# Altium footprint library 53048-0410.PcbLib: 1 footprints
Each footprint in its own frame and in the unit in brackets; x right, y up, seen from the top. Pads: shape width x height; smd on the part's side, far side on the other; paste and mask are expansions set on the pad; w line width, h text height; cw(c..) or ccw(c..) is an arc to the next point about the centre after c.
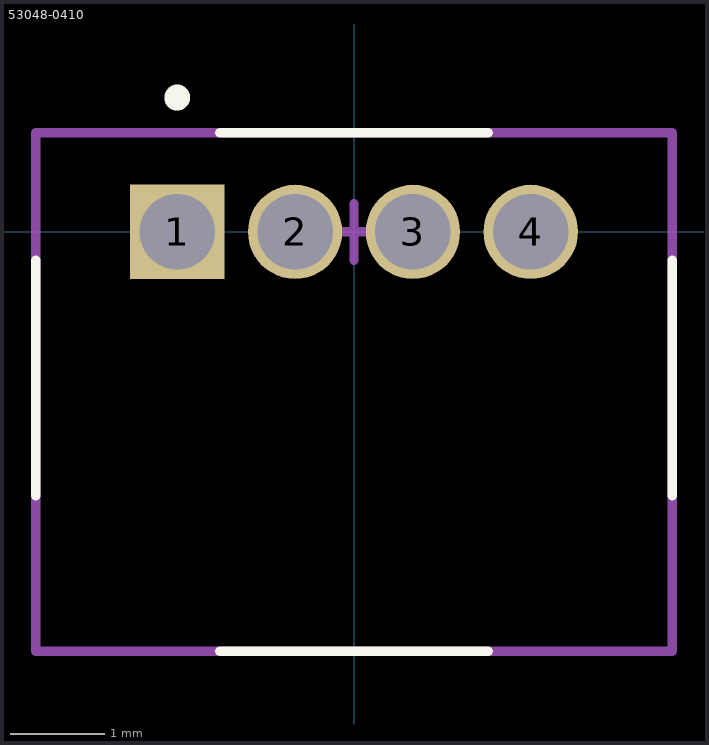
[diagram p0: the footprint, top view; thin cyan lines are the x and y axes]

## 53048-0410 [mm]
pads (4):
  rect 1x1 hole 0.8 mask+0.051: 1(-1.875,0)
  round 1 hole 0.8 mask+0.051: 2(-0.625,0) 3(0.625,0) 4(1.875,0)
Top Overlay:
  circle w0.254: c-1.875,1.425 r0.01
  lines w0.1: -3.375,-2.8 -3.375,-0.3 ; -1.425,-4.45 1.425,-4.45 ; -1.425,1.05 1.425,1.05 ; 3.375,-2.8 3.375,-0.3
Mechanical 13:
  lines w0.1: -3.375,-4.45 -3.375,1.05 3.375,1.05 3.375,0 3.375,-4.45 -3.375,-4.45
Mechanical 15:
  lines w0.1: -0.3,0 0,0 ; 0,-0.3 0,0 ; 0,0.3 0,0 ; 0.3,0 0,0
3D body "530480410.stp": height 3.21, standoff -2.59, extent -3.375,-4.45 3.375,1.05